# Altium schematic symbol library NCP1450ASN27T1G.SchLib: 1 symbol
Pins are listed as number, name and electrical type; pins without a type are passive.

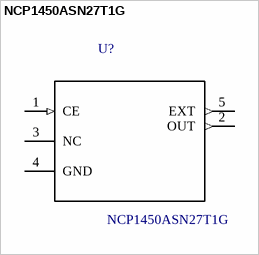
[diagram p0: symbol NCP1450ASN27T1G]

## NCP1450ASN27T1G
designator U?
DC DC Cntrlr Single-OUT Step Up 0.6V to 5.5V Input 5-Pin TSOP T/R; MF: ON Semiconductor; Price: 0.33 USD; Package: SOT-23 ON Semiconductor; Availability: Warning; MP: NCP1450ASN27T1G; SnapEDA_Link: https://www.snapeda.com/parts/NCP1450ASN27T1G/ON%2520Semiconductor/view-part/?ref=snap; Value: *
footprint SOT95P280X110-5N
pins: 1 CE (in), 2 OUT (out), 3 NC, 4 GND, 5 EXT (out)